# EAGLE library part ISL5314INZ (library Intersil_By_element14_Batch_1)
Direct Digital Synthesizer
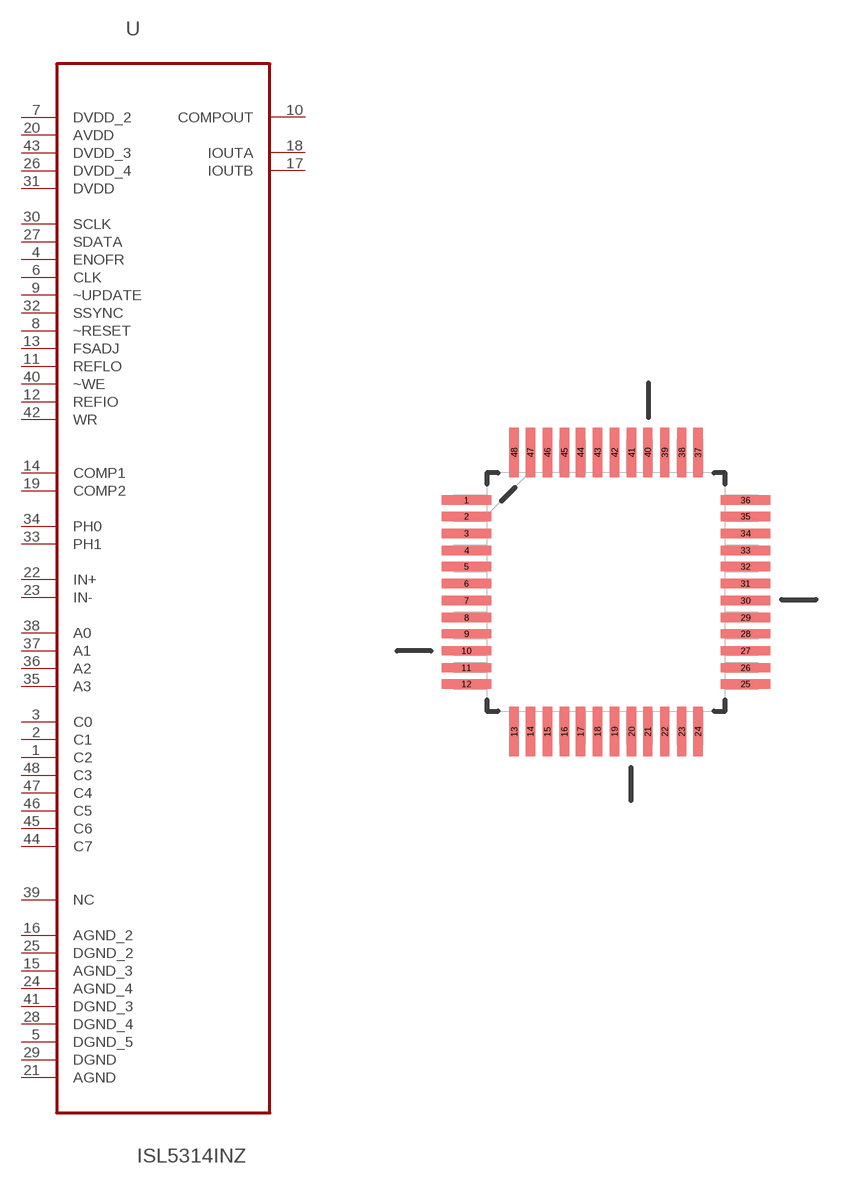
[diagram p220: symbol with the pads of QFP50P900X900X160-48N; footprint QFP50P900X900X160-48N]

Designator prefix U

## ISL5314INZ (MPN: ISL5314INZ; OC_FARNELL: -; OC_NEWARK: 79K7033; PACKAGE: LQFP-48; SUPPLIER: INTERSIL)  [QFP50P900X900X160-48N]
1  C2  in
2  C1  in
3  C0  in
4  ENOFR  in
5  DGND_5  in
6  CLK  in
7  DVDD_2  pwr
8  ~RESET  in
9  ~UPDATE  out
10  COMPOUT  in
11  REFLO  in
12  REFIO  in
13  FSADJ  in
14  COMP1  in
15  AGND_3  pas
16  AGND_2  pas
17  IOUTB  out
18  IOUTA  out
19  COMP2  in
20  AVDD  pwr
21  AGND  pas
22  IN+  in
23  IN-  in
24  AGND_4  pas
25  DGND_2  pas
26  DVDD_4  pwr
27  SDATA  in
28  DGND_4  pas
29  DGND  pas
30  SCLK  in
31  DVDD  pwr
32  SSYNC  in
33  PH1  in
34  PH0  in
35  A3  in
36  A2  in
37  A1  in
38  A0  in
39  NC  nc
40  ~WE  in
41  DGND_3  pas
42  WR  in
43  DVDD_3  pwr
44  C7  in
45  C6  in
46  C5  in
47  C4  in
48  C3  in

## Footprint QFP50P900X900X160-48N (pad centres in mm)
smd 1.473 x 0.279: 1 -4.166,2.743; 2 -4.166,2.261; 3 -4.166,1.753; 4 -4.166,1.245; 5 -4.166,0.762; 6 -4.166,0.254; 7 -4.166,-0.254; 8 -4.166,-0.762; 9 -4.166,-1.245; 10 -4.166,-1.753; 11 -4.166,-2.261; 12 -4.166,-2.743; 25 4.166,-2.743; 26 4.166,-2.261; 27 4.166,-1.753; 28 4.166,-1.245; 29 4.166,-0.762; 30 4.166,-0.254; 31 4.166,0.254; 32 4.166,0.762; 33 4.166,1.245; 34 4.166,1.753; 35 4.166,2.261; 36 4.166,2.743
smd 0.279 x 1.473: 13 -2.743,-4.166; 14 -2.261,-4.166; 15 -1.753,-4.166; 16 -1.245,-4.166; 17 -0.762,-4.166; 18 -0.254,-4.166; 19 0.254,-4.166; 20 0.762,-4.166; 21 1.245,-4.166; 22 1.753,-4.166; 23 2.261,-4.166; 24 2.743,-4.166; 37 2.743,4.166; 38 2.261,4.166; 39 1.753,4.166; 40 1.245,4.166; 41 0.762,4.166; 42 0.254,4.166; 43 -0.254,4.166; 44 -0.762,4.166; 45 -1.245,4.166; 46 -1.753,4.166; 47 -2.261,4.166; 48 -2.743,4.166